# Altium schematic symbol library Capacitors.SchLib: 58 symbols (part 2 of 2)
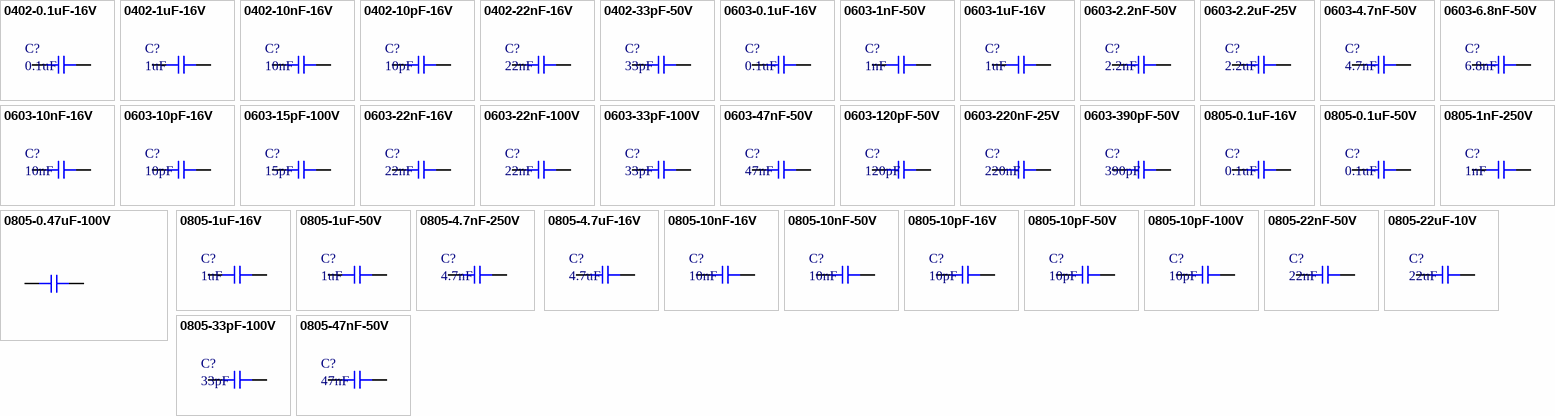
[diagram p2: symbols 0402-0.1uF-16V to 0805-47nF-50V]

## 0805-10nF-16V
designator C?, comment 10nF
CAP CER 10000PF 16V X7R 0805; Manufacturer: KEMET; Manufacturer Part Number: C0805C103K4RACTU; Dielectric Material: Ceramic; Tolerance: 10%; Supplier 1: Digi-Key; Stock 1: 53988; Pricing 1: 1=0.16, 10=0.112, 100=0.0528, 500=0.03704, 1000=0.03066 (USD); Mount: Surface Mount; Case/Package: 0805; Case Code (Metric): 2012; Case Code (Imperial): 0805; Min Operating Temperature: -55°C; Max Operating Temperature: 125°C; Package Quantity: 1; Capacitance: 10nF; Voltage Rating: 16V; Packaging: Tape and Reel; Voltage Rating (DC): 16V; Dielectric: X7R; Termination: SMD/SMT; Length: 2mm; Height: 0.78mm; Width: 0.049inch; Thickness: 0.035inch; Lead Pitch: 0.75mm; Depth: 1.25mm; Radiation Hardening: No; REACH SVHC: No SVHC; ComponentLink1URL: http://components.arrow.com/part/dataview/0323_00325260?src-supplier=Arrow+Europe; ComponentLink1Description: http://components.arrow.com/part/dataview/0323_00325260?src-supplier=Arrow+Europe; ComponentLink2URL: https://api.kemet.com/component-edge/download/datasheet/C0805C103K4RACTU.pdf?src-supplier=Digi-Key; ComponentLink2Description: https://api.kemet.com/component-edge/download/datasheet/C0805C103K4RACTU.pdf?src-supplier=Digi-Key; ComponentLink3URL: http://www.farnell.com/datasheets/2746090.pdf?src-supplier=Newark; ComponentLink3Description: http://www.farnell.com/datasheets/2746090.pdf?src-supplier=Newark; ComponentLink4URL: http://www.farnell.com/datasheets/2746090.pdf?src-supplier=Farnell; ComponentLink4Description: http://www.farnell.com/datasheets/2746090.pdf?src-supplier=Farnell; ComponentLink5URL: http://www.mouser.com/ds/2/212/KEM_C1002_X7R_SMD-1102033.pdf?src-supplier=Mouser; ComponentLink5Description: http://www.mouser.com/ds/2/212/KEM_C1002_X7R_SMD-1102033.pdf?src-supplier=Mouser; ComponentLink6URL: http://components.arrow.com/part/dataview/3450723S5469568N7429?src-supplier=Arrow; ComponentLink6Description: http://components.arrow.com/part/dataview/3450723S5469568N7429?src-supplier=Arrow; ComponentLink7URL: http://www.farnell.com/datasheets/2064983.pdf?src-supplier=Element14; ComponentLink7Description: http://www.farnell.com/datasheets/2064983.pdf?src-supplier=Element14; Supplier Part Number 1: 399-7995-6-ND
footprint CAP-0805 (Chip Capacitor, 2-Leads, Body 2.00x1.25mm, IPC Medium Density)
pins: 1, 2

## 0805-10nF-50V
designator C?, comment 10nF
CAP CER SMD 0805 .01UF X7R 5% 50V; Manufacturer: KEMET; Manufacturer Part Number: C0805C103J5RAC7210; Dielectric Material: Ceramic; Supplier 1: Digi-Key; Stock 1: 35151; Pricing 1: 1=0.11, 10=0.078, 100=0.0347, 500=0.0248, 1000=0.01948, 2500=0.01771, 5000=0.01629 (USD); Case/Package: 0805; Case Code (Imperial): 0805; Case Code (Metric): 2012; Min Operating Temperature: -55°C; Max Operating Temperature: 125°C; Tolerance: 5%; Packaging: Tape and Reel; Capacitance: 10nF; Package Quantity: 10000; Voltage Rating: 50V; Voltage Rating (DC): 50V; Dielectric: X7R; Termination: SMD/SMT; Length: 2mm; Lead Pitch: 0.75mm; Depth: 1.25mm; ComponentLink1URL: http://components.arrow.com/part/dataview/3450688S9650973N7429?src-supplier=Arrow; ComponentLink1Description: http://components.arrow.com/part/dataview/3450688S9650973N7429?src-supplier=Arrow; ComponentLink2URL: http://www.mouser.com/ds/2/212/KEM_C1002_X7R_SMD-1102033.pdf?src-supplier=Mouser; ComponentLink2Description: http://www.mouser.com/ds/2/212/KEM_C1002_X7R_SMD-1102033.pdf?src-supplier=Mouser; ComponentLink3URL: https://api.kemet.com/component-edge/download/datasheet/C0805C103J5RAC7210.pdf?src-supplier=Digi-Key; ComponentLink3Description: https://api.kemet.com/component-edge/download/datasheet/C0805C103J5RAC7210.pdf?src-supplier=Digi-Key; Supplier Part Number 1: 399-17616-6-ND
footprint CAP-0805 (Chip Capacitor, 2-Leads, Body 2.00x1.25mm, IPC Medium Density)
pins: 1, 2

## 0805-10pF-16V
designator C?, comment 10pF
CAP CER 10PF 16V C0G/NP0 0805; Manufacturer: KEMET; Manufacturer Part Number: C0805C100M4GACTU; Dielectric Material: Ceramic; Tolerance: 20%; Dielectric: C0G; Dissipation Factor: 0.1%; Supplier 1: Digi-Key; Stock 1: 15919; Pricing 1: 1=0.11, 10=0.081, 100=0.036, 500=0.02568, 1000=0.02018 (USD); Mount: Surface Mount; Case/Package: 0805; Case Code (Imperial): 0805; Case Code (Metric): 2012; Contact Plating: Tin,Matte; Min Operating Temperature: -55°C; Max Operating Temperature: 125°C; Capacitance: 10pF; Package Quantity: 1; Voltage Rating: 16V; Voltage Rating (DC): 16V; Packaging: Tape and Reel; Termination: SMD/SMT; Length: 2mm; Height: 0.78mm; Width: 1.2mm; Lead Pitch: 0.75mm; Thickness: 0.035inch; REACH SVHC: No SVHC; Lead Free: Lead Free; ComponentLink1URL: http://www.mouser.com/ds/2/212/KEM_C1003_C0G_SMD-1101588.pdf?src-supplier=Mouser; ComponentLink1Description: http://www.mouser.com/ds/2/212/KEM_C1003_C0G_SMD-1101588.pdf?src-supplier=Mouser; ComponentLink2URL: http://www.farnell.com/datasheets/2746314.pdf?src-supplier=Newark; ComponentLink2Description: http://www.farnell.com/datasheets/2746314.pdf?src-supplier=Newark; ComponentLink3URL: http://www.farnell.com/datasheets/2323334.pdf?src-supplier=Farnell; ComponentLink3Description: http://www.farnell.com/datasheets/2323334.pdf?src-supplier=Farnell; ComponentLink4URL: http://www.farnell.com/datasheets/2746314.pdf?src-supplier=Farnell; ComponentLink4Description: http://www.farnell.com/datasheets/2746314.pdf?src-supplier=Farnell; ComponentLink5URL: http://capacitoredge.kemet.com/capedge2/DataSheet?pn=C0805C100M4GACTU&src-supplier=Avnet; ComponentLink5Description: http://capacitoredge.kemet.com/capedge2/DataSheet?pn=C0805C100M4GACTU&src-supplier=Avnet; ComponentLink6URL: https://api.kemet.com/component-edge/download/datasheet/C0805C100M4GACTU.pdf?src-supplier=Digi-Key; ComponentLink6Description: https://api.kemet.com/component-edge/download/datasheet/C0805C100M4GACTU.pdf?src-supplier=Digi-Key; Supplier Part Number 1: 399-9147-6-ND
footprint CAP-0805 (Chip Capacitor, 2-Leads, Body 2.00x1.25mm, IPC Medium Density)
pins: 1, 2

## 0805-10pF-50V
designator C?, comment 10pF
CAP CER 10PF 50V C0G/NP0 0805; Manufacturer: KEMET; Manufacturer Part Number: C0805C100K5GACTU; Dielectric Material: Ceramic; Tolerance: 10%; Dielectric: C0G; Dissipation Factor: 0.1%; Supplier 1: Digi-Key; Stock 1: 68522; Pricing 1: 1=0.11, 10=0.081, 100=0.036, 500=0.02568, 1000=0.02018 (USD); Mount: Surface Mount; Case/Package: 0805; Case Code (Metric): 2012; Case Code (Imperial): 0805; Contact Plating: Tin,Matte; Min Operating Temperature: -55°C; Max Operating Temperature: 125°C; Capacitance: 10pF; Packaging: Tape and Reel; Package Quantity: 4000; Voltage Rating: 50V; Voltage Rating (DC): 50V; Termination: SMD/SMT; Length: 2mm; Height: 0.78mm; Width: 0.049inch; Thickness: 0.035inch; Lead Pitch: 0.75mm; Depth: 1.25mm; Radiation Hardening: No; REACH SVHC: No SVHC; Lead Free: Lead Free; ComponentLink1URL: http://www.farnell.com/datasheets/1791934.pdf?src-supplier=Element14; ComponentLink1Description: http://www.farnell.com/datasheets/1791934.pdf?src-supplier=Element14; ComponentLink2URL: http://www.mouser.com/ds/2/212/KEM_C1003_C0G_SMD-1101588.pdf?src-supplier=Mouser; ComponentLink2Description: http://www.mouser.com/ds/2/212/KEM_C1003_C0G_SMD-1101588.pdf?src-supplier=Mouser; ComponentLink3URL: https://www.verical.com/server-webapp/html/getDatasheet?partID=107106&src-supplier=Verical; ComponentLink3Description: https://www.verical.com/server-webapp/html/getDatasheet?partID=107106&src-supplier=Verical; Supplier Part Number 1: 399-7975-6-ND
footprint CAP-0805 (Chip Capacitor, 2-Leads, Body 2.00x1.25mm, IPC Medium Density)
pins: 1, 2

## 0805-10pF-100V
designator C?, comment 10pF
CAP CER 10PF 100V C0G/NP0 0805; Manufacturer: KEMET; Manufacturer Part Number: C0805C100J1GACTU; Dielectric Material: Ceramic; Tolerance: 5%; Dielectric: C0G; Dissipation Factor: 0.1%; Temperature Coefficient: 30ppm/°C; Supplier 1: Digi-Key; Stock 1: 8225; Pricing 1: 1=0.19, 10=0.131, 100=0.0663, 500=0.04538, 1000=0.04015 (USD); Mount: Surface Mount,PCB; Case/Package: 0805; Number of Pins: 2; Weight: 0.000194oz; Case Code (Metric): 2012; Case Code (Imperial): 0805; Contact Material: Tin; Min Operating Temperature: -55°C; Max Operating Temperature: 125°C; Capacitance: 10pF; Packaging: Tape and Reel; Voltage Rating: 100V; Voltage Rating (DC): 100V; Package Quantity: 1; Termination: SMD/SMT; Voltage: 100V; Length: 2mm; Height: 0.78mm; Width: 0.049inch; Thickness: 0.035inch; Depth: 1.25mm; Radiation Hardening: No; REACH SVHC: No SVHC; Lead Free: Lead Free; ComponentLink1URL: http://www.farnell.com/datasheets/1789732.pdf?src-supplier=Element14; ComponentLink1Description: http://www.farnell.com/datasheets/1789732.pdf?src-supplier=Element14; ComponentLink2URL: http://www.kemet.com/kemet/web/homepage/kechome.nsf/file/Commercial%20Ceramic%20Chips%20NP0%20-%20C0G%20Dielectric/$file/KEM_C1003_C0G_SMD.pdf?src-supplier=Element14; ComponentLink2Description: http://www.kemet.com/kemet/web/homepage/kechome.nsf/file/Commercial%20Ceramic%20Chips%20NP0%20-%20C0G%20Dielectric/$file/KEM_C1003_C0G_SMD.pdf?src-supplier=Element14; ComponentLink3URL: https://www.alliedelec.com/m/d/9bfe7773041ffe9d406e68bc7b377fdd.pdf?src-supplier=Allied+Electronics; ComponentLink3Description: https://www.alliedelec.com/m/d/9bfe7773041ffe9d406e68bc7b377fdd.pdf?src-supplier=Allied+Electronics; Supplier Part Number 1: 399-1109-6-ND
footprint CAP-0805 (Chip Capacitor, 2-Leads, Body 2.00x1.25mm, IPC Medium Density)
pins: 1, 2

## 0805-22nF-50V
designator C?, comment 22nF
CAP CER 0.022UF 50V X7R 0805; Manufacturer: KEMET; Manufacturer Part Number: C0805C223K5RACTU; Dielectric Material: Ceramic; Tolerance: 10%; Supplier 1: Digi-Key; Stock 1: 449500; Pricing 1: 1=0.1, 10=0.06, 100=0.0267, 500=0.01906, 1000=0.01497 (USD); Mount: Surface Mount; Case/Package: 0805; Min Operating Temperature: -55°C; Max Operating Temperature: 125°C; Packaging: Tape and Reel; Capacitance: 22nF; Dielectric: X7R; Voltage Rating (DC): 50V; Voltage: 50V; Length: 2mm; Height: 0.78mm; Depth: 1.25mm; Radiation Hardening: No; ComponentLink1URL: https://www.verical.com/server-webapp/html/getDatasheet?partID=385695&src-supplier=Verical; ComponentLink1Description: https://www.verical.com/server-webapp/html/getDatasheet?partID=385695&src-supplier=Verical; Supplier Part Number 1: 399-1163-6-ND
footprint CAP-0805 (Chip Capacitor, 2-Leads, Body 2.00x1.25mm, IPC Medium Density)
pins: 1, 2

## 0805-22uF-10V
designator C?, comment 22uF
CAP CER 22UF 10V X5R 0805; Manufacturer: KEMET; Manufacturer Part Number: C0805C226M8PACTU; Dielectric Material: Ceramic; Dissipation Factor: 10%; Tolerance: 20%; Supplier 1: Digi-Key; Stock 1: 29030; Pricing 1: 1=0.47, 10=0.331, 100=0.2179, 500=0.16142, 1000=0.1372 (USD); Mount: Surface Mount; Case/Package: 0805; Case Code (Metric): 2012; Case Code (Imperial): 0805; Min Operating Temperature: -55°C; Max Operating Temperature: 85°C; Packaging: Tape and Reel; Capacitance: 22uF; Voltage Rating: 10V; Voltage: 10V; Dielectric: X5R; Termination: Solder; Voltage Rating (DC): 10V; Length: 0.079inch; Height: 1.25mm; Width: 0.049inch; Thickness: 0.055inch; Depth: 1.25mm; Lead Free: Lead Free; ComponentLink1URL: http://www.farnell.com/datasheets/2746360.pdf?src-supplier=Newark; ComponentLink1Description: http://www.farnell.com/datasheets/2746360.pdf?src-supplier=Newark; ComponentLink2URL: http://www.farnell.com/datasheets/2746360.pdf?src-supplier=Farnell; ComponentLink2Description: http://www.farnell.com/datasheets/2746360.pdf?src-supplier=Farnell; ComponentLink3URL: http://www.farnell.com/datasheets/2746360.pdf?src-supplier=Element14; ComponentLink3Description: http://www.farnell.com/datasheets/2746360.pdf?src-supplier=Element14; ComponentLink4URL: https://api.kemet.com/component-edge/download/datasheet/C0805C226M8PAC7800.pdf?src-supplier=Digi-Key; ComponentLink4Description: https://api.kemet.com/component-edge/download/datasheet/C0805C226M8PAC7800.pdf?src-supplier=Digi-Key; ComponentLink5URL: http://www.alliedelec.com/m/d/f3c02ddb98afa3dd1adcb801109671e9.pdf?src-supplier=Allied+Electronics; ComponentLink5Description: http://www.alliedelec.com/m/d/f3c02ddb98afa3dd1adcb801109671e9.pdf?src-supplier=Allied+Electronics; Supplier Part Number 1: 399-12069-6-ND
footprint CAP-0805 (Chip Capacitor, 2-Leads, Body 2.00x1.25mm, IPC Medium Density)
pins: 1, 2

## 0805-33pF-100V
designator C?, comment 33pF
CAP CER 33PF 100V C0G/NP0 0805; Manufacturer: KEMET; Manufacturer Part Number: C0805C330J1GACTU; Dielectric Material: Ceramic; Tolerance: 5%; Dielectric: C0G; Temperature Coefficient: 30ppm/°C; Dissipation Factor: 0.5%; Supplier 1: Digi-Key; Stock 1: 33939; Pricing 1: 1=0.13, 10=0.095, 100=0.0446, 500=0.03126, 1000=0.02589 (USD); Mount: Surface Mount; Case/Package: 0805; Number of Pins: 2; Case Code (Metric): 2012; Case Code (Imperial): 0805; Contact Material: Tin; Contact Plating: Tin,Matte; Min Operating Temperature: -55°C; Max Operating Temperature: 125°C; Capacitance: 33pF; Voltage Rating: 100V; Packaging: Tape and Reel; Voltage Rating (DC): 100V; Package Quantity: 1; Termination: SMD/SMT; Length: 2mm; Height: 0.78mm; Width: 0.049inch; Thickness: 0.035inch; Lead Pitch: 0.75mm; Depth: 1.25mm; Radiation Hardening: No; REACH SVHC: No SVHC; Lead Free: Lead Free; ComponentLink1URL: https://www.verical.com/server-webapp/html/getDatasheet?partID=135191&src-supplier=Verical; ComponentLink1Description: https://www.verical.com/server-webapp/html/getDatasheet?partID=135191&src-supplier=Verical; ComponentLink2URL: http://www.farnell.com/datasheets/40889.pdf?src-supplier=Element14; ComponentLink2Description: http://www.farnell.com/datasheets/40889.pdf?src-supplier=Element14; ComponentLink3URL: http://www.kemet.com/Lists/ProductCatalog/Attachments/46/KEM_C1003_C0G_SMD.pdf?src-supplier=Avnet; ComponentLink3Description: http://www.kemet.com/Lists/ProductCatalog/Attachments/46/KEM_C1003_C0G_SMD.pdf?src-supplier=Avnet; ComponentLink4URL: http://www.farnell.com/datasheets/1789732.pdf?src-supplier=Element14; ComponentLink4Description: http://www.farnell.com/datasheets/1789732.pdf?src-supplier=Element14; Supplier Part Number 1: 399-8061-6-ND
footprint CAP-0805 (Chip Capacitor, 2-Leads, Body 2.00x1.25mm, IPC Medium Density)
pins: 1, 2

## 0805-47nF-50V
designator C?, comment 47nF
CAP CER 0.047UF 50V X7R 0805; Manufacturer: Yageo; Manufacturer Part Number: CC0805KRX7R9BB473; Material: Ceramic; Tolerance: 10%; Insulation Resistance: 100GR; Dissipation Factor: 2.5%; Supplier 1: Digi-Key; Stock 1: 16938; Pricing 1: 1=0.14, 10=0.1, 100=0.047, 500=0.03298, 1000=0.0273 (USD); Mount: Surface Mount; Case/Package: 0805; Number of Pins: 2; Case Code (Metric): 2012; Case Code (Imperial): 0805; Dielectric Material: Ceramic; Min Operating Temperature: -55°C; Max Operating Temperature: 125°C; Packaging: Tape and Reel; Capacitance: 47nF; Voltage Rating: 50V; Package Quantity: 1; Voltage Rating (DC): 50V; Dielectric: X7R; Termination: SMD/SMT; Composition: Ceramic; Voltage: 50V; Length: 2mm; Height: 1.25mm; Width: 1.25mm; Thickness: 0.037inch; Depth: 1.25mm; Radiation Hardening: No; REACH SVHC: Unknown; Lead Free: Lead Free; Halogen Free: Halogen Free; ComponentLink1URL: http://www.yageo.com/documents/recent/UPY-GPHC_X7R_6.3V-to-50V_18.pdf?src-supplier=Digi-Key; ComponentLink1Description: http://www.yageo.com/documents/recent/UPY-GPHC_X7R_6.3V-to-50V_18.pdf?src-supplier=Digi-Key; ComponentLink2URL: http://www.farnell.com/datasheets/2167236.pdf?src-supplier=Element14; ComponentLink2Description: http://www.farnell.com/datasheets/2167236.pdf?src-supplier=Element14; ComponentLink3URL: http://www.farnell.com/datasheets/1489800.pdf?src-supplier=Element14; ComponentLink3Description: http://www.farnell.com/datasheets/1489800.pdf?src-supplier=Element14; ComponentLink4URL: http://www.yageo.com/documents/recent/UPY-GPHC_X7R_6.3V-to-50V_8.pdf?src-supplier=Avnet; ComponentLink4Description: http://www.yageo.com/documents/recent/UPY-GPHC_X7R_6.3V-to-50V_8.pdf?src-supplier=Avnet; ComponentLink5URL: https://www.verical.com/server-webapp/html/getDatasheet?partID=403708&src-supplier=Verical; ComponentLink5Description: https://www.verical.com/server-webapp/html/getDatasheet?partID=403708&src-supplier=Verical; Supplier Part Number 1: 311-1431-6-ND
footprint CAP-0805 (Chip Capacitor, 2-Leads, Body 2.00x1.25mm, IPC Medium Density)
pins: 1, 2

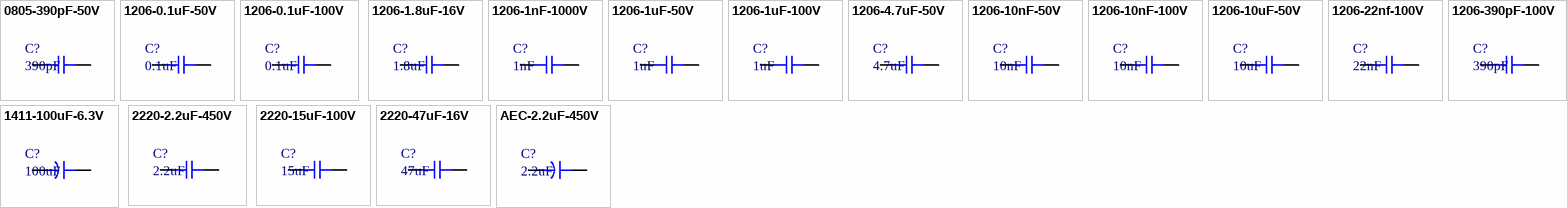
[diagram p1: symbols 0805-390pF-50V to AEC-2.2uF-450V]

## 0805-390pF-50V
designator C?, comment 390pF
CAP CER 390PF 50V C0G/NP0 0805; Manufacturer: KEMET; Manufacturer Part Number: C0805C391J5GACTU; Dielectric Material: Ceramic; Tolerance: 5%; Dissipation Factor: 0.1%; Dielectric: C0G; Supplier 1: Digi-Key; Stock 1: 12778; Pricing 1: 1=0.15, 10=0.105, 100=0.0495, 500=0.03472, 1000=0.02875 (USD); Mount: Surface Mount,PCB; Case/Package: 0805; Case Code (Metric): 2012; Case Code (Imperial): 0805; Contact Material: Tin; Contact Plating: Tin,Matte; Min Operating Temperature: -55°C; Max Operating Temperature: 125°C; Package Quantity: 1; Capacitance: 390pF; Voltage Rating: 50V; Packaging: Tape and Reel; Termination: SMD/SMT; Voltage Rating (DC): 50V; Voltage: 50V; Length: 2mm; Height: 0.78mm; Width: 0.049inch; Lead Pitch: 0.75mm; Depth: 1.25mm; Thickness: 0.035inch; Radiation Hardening: No; REACH SVHC: No SVHC; Lead Free: Lead Free; ComponentLink1URL: https://search.kemet.com/component-edge/download/datasheet/C0805C391J5GACTU.pdf?src-supplier=Digi-Key; ComponentLink1Description: https://search.kemet.com/component-edge/download/datasheet/C0805C391J5GACTU.pdf?src-supplier=Digi-Key; ComponentLink2URL: https://www.verical.com/server-webapp/html/getDatasheet?partID=35246&src-supplier=Verical; ComponentLink2Description: https://www.verical.com/server-webapp/html/getDatasheet?partID=35246&src-supplier=Verical; ComponentLink3URL: https://www.alliedelec.com/m/d/9bfe7773041ffe9d406e68bc7b377fdd.pdf?src-supplier=Allied+Electronics; ComponentLink3Description: https://www.alliedelec.com/m/d/9bfe7773041ffe9d406e68bc7b377fdd.pdf?src-supplier=Allied+Electronics; ComponentLink4URL: http://www.farnell.com/datasheets/1372242.pdf?src-supplier=Element14; ComponentLink4Description: http://www.farnell.com/datasheets/1372242.pdf?src-supplier=Element14; ComponentLink5URL: http://www.jameco.com/Jameco/Products/ProdDS/1567367.pdf?src-supplier=Jameco; ComponentLink5Description: http://www.jameco.com/Jameco/Products/ProdDS/1567367.pdf?src-supplier=Jameco; Supplier Part Number 1: 399-1132-6-ND
footprint CAP-0805 (Chip Capacitor, 2-Leads, Body 2.00x1.25mm, IPC Medium Density)
pins: 1, 2

## 1206-0.1uF-50V
designator C?, comment 0.1uF
CAP CER 0.1UF 50V X7R 1206; Manufacturer: KEMET; Manufacturer Part Number: C1206C104K5RAC-TU; Dielectric Material: Ceramic; Tolerance: 10%; Capacitance: 100nF; Supplier 1: Digi-Key; Stock 1: 471916; Pricing 1: 1=0.12, 10=0.088, 100=0.0413, 500=0.02896, 1000=0.02397 (USD); Mount: Surface Mount; Case/Package: 1206; Number of Pins: 2; Case Code (Imperial): 1206; Case Code (Metric): 3216; Contact Plating: Tin,Matte; Min Operating Temperature: -55°C; Max Operating Temperature: 125°C; Packaging: Tape and Reel; Voltage Rating (DC): 50V; Dielectric: X7R; Voltage Rating: 50V; Package Quantity: 4000; Termination: SMD/SMT; Voltage: 50V; Length: 3.2mm; Height: 0.78mm; Width: 1.6mm; Depth: 1.6mm; Radiation Hardening: No; REACH SVHC: No SVHC; ComponentLink1URL: http://www.kemet.com/kemet/web/homepage/kechome.nsf/vapubfiles/KEM_C1002_X7R_SMD.pdf/$file/KEM_C1002_X7R_SMD.pdf?src-supplier=Farnell; ComponentLink1Description: http://www.kemet.com/kemet/web/homepage/kechome.nsf/vapubfiles/KEM_C1002_X7R_SMD.pdf/$file/KEM_C1002_X7R_SMD.pdf?src-supplier=Farnell; ComponentLink2URL: http://www.mouser.com/ds/2/212/KEM_C1002_X7R_SMD-1102033.pdf?src-supplier=Mouser; ComponentLink2Description: http://www.mouser.com/ds/2/212/KEM_C1002_X7R_SMD-1102033.pdf?src-supplier=Mouser; ComponentLink3URL: http://www.farnell.com/datasheets/2315737.pdf?src-supplier=Farnell; ComponentLink3Description: http://www.farnell.com/datasheets/2315737.pdf?src-supplier=Farnell; ComponentLink4URL: http://www.alliedelec.com/m/d/9bfe7773041ffe9d406e68bc7b377fdd.pdf?src-supplier=Allied+Electronics; ComponentLink4Description: http://www.alliedelec.com/m/d/9bfe7773041ffe9d406e68bc7b377fdd.pdf?src-supplier=Allied+Electronics; ComponentLink5URL: http://www.farnell.com/datasheets/1851736.pdf?src-supplier=Element14; ComponentLink5Description: http://www.farnell.com/datasheets/1851736.pdf?src-supplier=Element14; ComponentLink6URL: http://www.kemet.com/kemet/web/homepage/kechome.nsf/vapubfiles/KEM_C1002_X7R_SMD.pdf/$file/KEM_C1002_X7R_SMD.pdf?src-supplier=Element14; ComponentLink6Description: http://www.kemet.com/kemet/web/homepage/kechome.nsf/vapubfiles/KEM_C1002_X7R_SMD.pdf/$file/KEM_C1002_X7R_SMD.pdf?src-supplier=Element14; ComponentLink7URL: http://www.onlinecomponents.com/productFiles/mf-KEM/docfinderpartnumberc0402c102k5ractu.pdf?src-supplier=Onlinecomponents.com; ComponentLink7Description: http://www.onlinecomponents.com/productFiles/mf-KEM/docfinderpartnumberc0402c102k5ractu.pdf?src-supplier=Onlinecomponents.com; ComponentLink8URL: https://www.distrelec.biz/Web/Downloads/_t/ds/KEM_C1002_X7R_SMD_eng_tds.pdf?mime=application%2Fpdf&src-supplier=Distrelec; ComponentLink8Description: https://www.distrelec.biz/Web/Downloads/_t/ds/KEM_C1002_X7R_SMD_eng_tds.pdf?mime=application%2Fpdf&src-supplier=Distrelec; Supplier Part Number 1: 399-C1206C104K5RAC7800DKR-ND
footprint CAP-1206 (Chip Capacitor, 2-Leads, Body 3.20x1.60mm, IPC Medium Density)
pins: 1, 2

## 1206-0.1uF-100V
designator C?, comment 0.1uF
CAP CER 0.1UF 100V X7R 1206; Manufacturer: KEMET; Manufacturer Part Number: C1206C104K1RACTU; Dielectric Material: Ceramic; Capacitance: 100nF; Tolerance: 10%; Supplier 1: Digi-Key; Stock 1: 407754; Pricing 1: 1=0.28, 10=0.19, 100=0.1075, 500=0.0759, 1000=0.06641 (USD); Mount: Surface Mount,PCB; Case/Package: 1206; Number of Pins: 2; Case Code (Imperial): 1206; Case Code (Metric): 3216; Contact Plating: Tin,Matte; Min Operating Temperature: -55°C; Max Operating Temperature: 125°C; Packaging: Tape and Reel; Package Quantity: 1; Voltage Rating: 100V; Voltage Rating (DC): 100V; Dielectric: X7R; Termination: SMD/SMT; Voltage: 100V; Length: 3.2mm; Height: 0.78mm; Width: 1.6mm; Thickness: 0.035inch; Depth: 1.6mm; Radiation Hardening: No; REACH SVHC: No SVHC; ComponentLink1URL: http://www.farnell.com/datasheets/2740715.pdf?src-supplier=Element14; ComponentLink1Description: http://www.farnell.com/datasheets/2740715.pdf?src-supplier=Element14; ComponentLink2URL: https://search.kemet.com/component-edge/download/datasheet/C1206C104K1RACTU.pdf?src-supplier=Allied+Electronics; ComponentLink2Description: https://search.kemet.com/component-edge/download/datasheet/C1206C104K1RACTU.pdf?src-supplier=Allied+Electronics; Supplier Part Number 1: 399-1805-6-ND
footprint CAP-1206 (Chip Capacitor, 2-Leads, Body 3.20x1.60mm, IPC Medium Density)
pins: 1, 2

## 1206-1.8uF-16V
designator C?, comment 1.8uF
CAP CER 1.8UF 16V X7R 1206; Manufacturer: KEMET; Manufacturer Part Number: C1206X185K4RACAUTO; Dielectric Material: Ceramic; Tolerance: 10%; Supplier 1: Digi-Key; Stock 1: 438963; Pricing 1: 1=0.9, 10=0.66, 100=0.4524, 500=0.35814, 1000=0.30159 (USD); Mount: Surface Mount; Case/Package: 1206; Weight: 0.000571oz; Case Code (Imperial): 1206; Case Code (Metric): 3216; Min Operating Temperature: -55°C; Max Operating Temperature: 125°C; Packaging: Tape and Reel; Capacitance: 1.8uF; Dielectric: X7R; Voltage Rating: 16V; Termination: SMD/SMT; Voltage Rating (DC): 16V; Package Quantity: 2500; Features: Soft Termination; Length: 0.13inch; Height: 1mm; Width: 0.063inch; Thickness: 0.047inch; Depth: 1.6mm; Ratings: AEC-Q200; ComponentLink1URL: https://api.kemet.com/component-edge/download/datasheet/C1206X185K4RACAUTO.pdf?src-supplier=Digi-Key; ComponentLink1Description: https://api.kemet.com/component-edge/download/datasheet/C1206X185K4RACAUTO.pdf?src-supplier=Digi-Key; ComponentLink2URL: http://components.arrow.com/part/dataview/0323_06505338?src-supplier=Arrow+Europe; ComponentLink2Description: http://components.arrow.com/part/dataview/0323_06505338?src-supplier=Arrow+Europe; ComponentLink3URL: http://www.kemet.com/docfinder?Partnumber=C1206X185K4RACAUTO&src-supplier=Digi-Key; ComponentLink3Description: http://www.kemet.com/docfinder?Partnumber=C1206X185K4RACAUTO&src-supplier=Digi-Key; ComponentLink4URL: http://www.mouser.com/ds/2/212/KEM_C1078_X7R_FT-CAP_AUTO_SMD-780116.pdf?src-supplier=Mouser; ComponentLink4Description: http://www.mouser.com/ds/2/212/KEM_C1078_X7R_FT-CAP_AUTO_SMD-780116.pdf?src-supplier=Mouser; Supplier Part Number 1: 399-17271-6-ND
footprint CAP-1206 (Chip Capacitor, 2-Leads, Body 3.20x1.60mm, IPC Medium Density)
pins: 1, 2

## 1206-1nF-1000V
designator C?, comment 1nF
CAP CER 1000PF 1KV X7R 1206; Manufacturer: KEMET; Manufacturer Part Number: C1206C102KDRACTU; Dielectric Material: Ceramic; Tolerance: 10%; Voltage Rating (DC): 1.5kV; Voltage: 2kV; Supplier 1: Digi-Key; Stock 1: 93224; Pricing 1: 1=0.28, 10=0.19, 100=0.1075, 500=0.0759, 1000=0.06641 (USD); Mount: Surface Mount; Case/Package: 1206; Number of Pins: 2; Case Code (Imperial): 1206; Case Code (Metric): 3216; Min Operating Temperature: -55°C; Max Operating Temperature: 125°C; Packaging: Tape and Reel; Capacitance: 1nF; Dielectric: X7R; Package Quantity: 1; Voltage Rating: 1kV; Termination: SMD/SMT; Length: 3.2mm; Height: 1.2mm; Depth: 1.6mm; Width: 0.063inch; Thickness: 0.053inch; Lead Pitch: 1.5mm; Radiation Hardening: No; REACH SVHC: No SVHC; ComponentLink1URL: http://www.farnell.com/datasheets/1807957.pdf?src-supplier=Element14; ComponentLink1Description: http://www.farnell.com/datasheets/1807957.pdf?src-supplier=Element14; ComponentLink2URL: http://www.farnell.com/datasheets/1812017.pdf?src-supplier=Element14; ComponentLink2Description: http://www.farnell.com/datasheets/1812017.pdf?src-supplier=Element14; ComponentLink3URL: https://www.verical.com/server-webapp/html/getDatasheet?partID=320277&src-supplier=Verical; ComponentLink3Description: https://www.verical.com/server-webapp/html/getDatasheet?partID=320277&src-supplier=Verical; ComponentLink4URL: http://www.jameco.com/Jameco/Products/ProdDS/1567931.pdf?src-supplier=Jameco; ComponentLink4Description: http://www.jameco.com/Jameco/Products/ProdDS/1567931.pdf?src-supplier=Jameco; ComponentLink5URL: http://www.farnell.com/datasheets/1918693.pdf?src-supplier=Element14; ComponentLink5Description: http://www.farnell.com/datasheets/1918693.pdf?src-supplier=Element14; ComponentLink6URL: http://www.kemet.com/kemet/web/homepage/kechome.nsf/vapubfiles/KEM_C1002_X7R_SMD.pdf/$file/KEM_C1002_X7R_SMD.pdf?src-supplier=Farnell; ComponentLink6Description: http://www.kemet.com/kemet/web/homepage/kechome.nsf/vapubfiles/KEM_C1002_X7R_SMD.pdf/$file/KEM_C1002_X7R_SMD.pdf?src-supplier=Farnell; Supplier Part Number 1: 399-3437-6-ND
pins: 1, 2

## 1206-1uF-50V
designator C?, comment 1uF
CAP CER 1UF 50V X7R 1206; Manufacturer: KEMET; Manufacturer Part Number: C1206C105K5RACTU; Dielectric Material: Ceramic; Tolerance: 10%; Supplier 1: Digi-Key; Stock 1: 152402; Pricing 1: 1=0.32, 10=0.219, 100=0.1239, 500=0.08744, 1000=0.07651 (USD); Mount: Surface Mount; Case/Package: 1206; Number of Pins: 2; Case Code (Imperial): 1206; Case Code (Metric): 3216; Min Operating Temperature: -55°C; Max Operating Temperature: 125°C; Capacitance: 1uF; Packaging: Tape and Reel; Dielectric: X7R; Voltage: 50V; Termination: SMD/SMT; Package Quantity: 1; Voltage Rating: 50V; Voltage Rating (DC): 50V; Length: 3.2mm; Height: 1mm; Depth: 1.6mm; Width: 0.063inch; Thickness: 0.043inch; Radiation Hardening: No; REACH SVHC: No SVHC; ComponentLink1URL: http://www.kemet.com/kemet/web/homepage/kechome.nsf/vapubfiles/KEM_C1002_X7R_SMD.pdf/$file/KEM_C1002_X7R_SMD.pdf?src-supplier=Element14; ComponentLink1Description: http://www.kemet.com/kemet/web/homepage/kechome.nsf/vapubfiles/KEM_C1002_X7R_SMD.pdf/$file/KEM_C1002_X7R_SMD.pdf?src-supplier=Element14; ComponentLink2URL: http://www.kemet.com/kemet/web/homepage/kechome.nsf/vapubfiles/KEM_C1002_X7R_SMD.pdf/$file/KEM_C1002_X7R_SMD.pdf?src-supplier=Farnell; ComponentLink2Description: http://www.kemet.com/kemet/web/homepage/kechome.nsf/vapubfiles/KEM_C1002_X7R_SMD.pdf/$file/KEM_C1002_X7R_SMD.pdf?src-supplier=Farnell; ComponentLink3URL: http://www.farnell.com/datasheets/1918693.pdf?src-supplier=Element14; ComponentLink3Description: http://www.farnell.com/datasheets/1918693.pdf?src-supplier=Element14; Supplier Part Number 1: 399-8147-6-ND
footprint CAP-1206 (Chip Capacitor, 2-Leads, Body 3.20x1.60mm, IPC Medium Density)
pins: 1, 2

## 1206-1uF-100V
designator C?, comment 1uF
CAP CER 1UF 100V X7R 1206; Manufacturer: KEMET; Manufacturer Part Number: C1206C105M1RACTU; Dielectric Material: Ceramic; Tolerance: 20%; Supplier 1: Digi-Key; Stock 1: 7623; Pricing 1: 1=0.55, 10=0.392, 100=0.2582, 500=0.19126, 1000=0.16258 (USD); Mount: Surface Mount; Case/Package: 1206; Weight: 0.000571oz; Case Code (Metric): 3216; Case Code (Imperial): 1206; Min Operating Temperature: -55°C; Max Operating Temperature: 125°C; Capacitance: 1uF; Packaging: Tape and Reel; Voltage Rating: 100V; Dielectric: X7R; Termination: SMD/SMT; Voltage Rating (DC): 100V; Package Quantity: 2000; Length: 0.126inch; Height: 1.6mm; Width: 1.6mm; Thickness: 0.071inch; ComponentLink1URL: http://www.farnell.com/datasheets/2746623.pdf?src-supplier=Farnell; ComponentLink1Description: http://www.farnell.com/datasheets/2746623.pdf?src-supplier=Farnell; ComponentLink2URL: http://www.farnell.com/datasheets/2746623.pdf?src-supplier=Newark; ComponentLink2Description: http://www.farnell.com/datasheets/2746623.pdf?src-supplier=Newark; ComponentLink3URL: http://www.mouser.com/ds/2/212/KEM_C1002_X7R_SMD-357932.pdf?src-supplier=Mouser; ComponentLink3Description: http://www.mouser.com/ds/2/212/KEM_C1002_X7R_SMD-357932.pdf?src-supplier=Mouser; ComponentLink4URL: https://api.kemet.com/component-edge/download/datasheet/C1206C105M1RACTU.pdf?src-supplier=Digi-Key; ComponentLink4Description: https://api.kemet.com/component-edge/download/datasheet/C1206C105M1RACTU.pdf?src-supplier=Digi-Key; ComponentLink5URL: http://www.kemet.com/docfinder?Partnumber=C1206C105M1RACTU&src-supplier=Digi-Key; ComponentLink5Description: http://www.kemet.com/docfinder?Partnumber=C1206C105M1RACTU&src-supplier=Digi-Key; Supplier Part Number 1: 399-11684-6-ND
footprint CAP-1206 (Chip Capacitor, 2-Leads, Body 3.20x1.60mm, IPC Medium Density)
pins: 1, 2

## 1206-4.7uF-50V
designator C?, comment 4.7uF
CAP CER 4.7UF 50V X5R 1206; Manufacturer: KEMET; Manufacturer Part Number: C1206C475K5PACTU; Dielectric Material: Ceramic; Tolerance: 10%; Supplier 1: Digi-Key; Stock 1: 32084; Pricing 1: 1=0.37, 10=0.259, 100=0.1552, 500=0.11642, 1000=0.09831 (USD); Mount: Surface Mount; Case/Package: 1206; Number of Pins: 2; Contact Plating: Tin,Matte; Min Operating Temperature: -55°C; Max Operating Temperature: 85°C; Capacitance: 4.7uF; Packaging: Tape and Reel; Dielectric: X5R; Voltage: 50V; Termination: SMD/SMT; Voltage Rating (DC): 50V; Length: 3.2mm; Height: 1.6mm; Depth: 1.6mm; Radiation Hardening: No; Lead Free: Lead Free; ComponentLink1URL: http://www.farnell.com/datasheets/2740796.pdf?src-supplier=Element14; ComponentLink1Description: http://www.farnell.com/datasheets/2740796.pdf?src-supplier=Element14; ComponentLink2URL: http://www.farnell.com/datasheets/2740796.pdf?src-supplier=Farnell; ComponentLink2Description: http://www.farnell.com/datasheets/2740796.pdf?src-supplier=Farnell; ComponentLink3URL: https://media.digikey.com/pdf/Data%20Sheets/Kemet%20PDFs/C1206C475K5PAC.pdf?src-supplier=Digi-Key; ComponentLink3Description: https://media.digikey.com/pdf/Data%20Sheets/Kemet%20PDFs/C1206C475K5PAC.pdf?src-supplier=Digi-Key; ComponentLink4URL: http://www.farnell.com/datasheets/2740796.pdf?src-supplier=Newark; ComponentLink4Description: http://www.farnell.com/datasheets/2740796.pdf?src-supplier=Newark; ComponentLink5URL: http://components.arrow.com/part/dataview/0323_00069465?src-supplier=Arrow+Europe; ComponentLink5Description: http://components.arrow.com/part/dataview/0323_00069465?src-supplier=Arrow+Europe; Supplier Part Number 1: 399-5507-6-ND
footprint CAP-1206 (Chip Capacitor, 2-Leads, Body 3.20x1.60mm, IPC Medium Density)
pins: 1, 2

## 1206-10nF-50V
designator C?, comment 10nF
CAP CER 10000PF 50V X7R 1206; Manufacturer: KEMET; Manufacturer Part Number: C1206C103K5RACTU; Dielectric Material: Ceramic; Tolerance: 10%; Supplier 1: Digi-Key; Stock 1: 112096; Pricing 1: 1=0.19, 10=0.131, 100=0.0663, 500=0.04538, 1000=0.04015 (USD); Mount: Surface Mount,PCB; Case/Package: 1206; Number of Pins: 2; Case Code (Imperial): 1206; Case Code (Metric): 3216; Contact Plating: Tin,Matte; Min Operating Temperature: -55°C; Max Operating Temperature: 125°C; Capacitance: 10nF; Voltage Rating: 50V; Voltage Rating (DC): 50V; Package Quantity: 4000; Packaging: Tape and Reel; Dielectric: X7R; Termination: SMD/SMT; Voltage: 50V; Length: 3.2mm; Height: 0.78mm; Width: 1.6mm; Thickness: 0.035inch; Depth: 1.6mm; Radiation Hardening: No; REACH SVHC: No SVHC; ComponentLink1URL: http://www.farnell.com/datasheets/1851736.pdf?src-supplier=Element14; ComponentLink1Description: http://www.farnell.com/datasheets/1851736.pdf?src-supplier=Element14; ComponentLink2URL: https://www.verical.com/server-webapp/html/getDatasheet?partID=93584&src-supplier=Verical; ComponentLink2Description: https://www.verical.com/server-webapp/html/getDatasheet?partID=93584&src-supplier=Verical; ComponentLink3URL: http://www.kemet.com/kemet/web/homepage/kechome.nsf/vapubfiles/KEM_C1002_X7R_SMD.pdf/$file/KEM_C1002_X7R_SMD.pdf?src-supplier=Element14; ComponentLink3Description: http://www.kemet.com/kemet/web/homepage/kechome.nsf/vapubfiles/KEM_C1002_X7R_SMD.pdf/$file/KEM_C1002_X7R_SMD.pdf?src-supplier=Element14; ComponentLink4URL: https://www.alliedelec.com/m/d/9bfe7773041ffe9d406e68bc7b377fdd.pdf?src-supplier=Allied+Electronics; ComponentLink4Description: https://www.alliedelec.com/m/d/9bfe7773041ffe9d406e68bc7b377fdd.pdf?src-supplier=Allied+Electronics; ComponentLink5URL: http://www.farnell.com/datasheets/2740714.pdf?src-supplier=Element14; ComponentLink5Description: http://www.farnell.com/datasheets/2740714.pdf?src-supplier=Element14; Supplier Part Number 1: 399-1234-6-ND
footprint CAP-1206 (Chip Capacitor, 2-Leads, Body 3.20x1.60mm, IPC Medium Density)
pins: 1, 2

## 1206-10nF-100V
designator C?, comment 10nF
CAP CER 10000PF 100V X7R 1206; Manufacturer: KEMET; Manufacturer Part Number: C1206C103K1RACTU; Dielectric Material: Ceramic; Tolerance: 10%; Dissipation Factor: 2.5%; Supplier 1: Digi-Key; Stock 1: 319949; Pricing 1: 1=0.21, 10=0.142, 100=0.0721, 500=0.04934, 1000=0.04364 (USD); Mount: Surface Mount,PCB; Case/Package: 1206; Number of Pins: 2; Case Code (Metric): 3216; Case Code (Imperial): 1206; Contact Plating: Tin,Matte; Min Operating Temperature: -55°C; Max Operating Temperature: 125°C; Package Quantity: 1; Capacitance: 10nF; Voltage Rating: 100V; Packaging: Tape and Reel; Voltage Rating (DC): 100V; Dielectric: X7R; Termination: SMD/SMT; Voltage: 100V; Length: 3.2mm; Height: 0.78mm; Width: 0.063inch; Thickness: 0.035inch; Depth: 1.6mm; Radiation Hardening: No; REACH SVHC: No SVHC; ComponentLink1URL: http://www.mouser.com/ds/2/212/KEM_C1002_X7R_SMD-1102033.pdf?src-supplier=Mouser; ComponentLink1Description: http://www.mouser.com/ds/2/212/KEM_C1002_X7R_SMD-1102033.pdf?src-supplier=Mouser; ComponentLink2URL: https://www.alliedelec.com/m/d/9bfe7773041ffe9d406e68bc7b377fdd.pdf?src-supplier=Allied+Electronics; ComponentLink2Description: https://www.alliedelec.com/m/d/9bfe7773041ffe9d406e68bc7b377fdd.pdf?src-supplier=Allied+Electronics; ComponentLink3URL: http://www.kemet.com/kemet/web/homepage/kechome.nsf/vapubfiles/KEM_C1002_X7R_SMD.pdf/$file/KEM_C1002_X7R_SMD.pdf?src-supplier=Element14; ComponentLink3Description: http://www.kemet.com/kemet/web/homepage/kechome.nsf/vapubfiles/KEM_C1002_X7R_SMD.pdf/$file/KEM_C1002_X7R_SMD.pdf?src-supplier=Element14; ComponentLink4URL: https://www.verical.com/server-webapp/html/getDatasheet?partID=385817&src-supplier=Verical; ComponentLink4Description: https://www.verical.com/server-webapp/html/getDatasheet?partID=385817&src-supplier=Verical; ComponentLink5URL: http://www.farnell.com/datasheets/1851736.pdf?src-supplier=Element14; ComponentLink5Description: http://www.farnell.com/datasheets/1851736.pdf?src-supplier=Element14; Supplier Part Number 1: 399-1236-6-ND
footprint CAP-1206 (Chip Capacitor, 2-Leads, Body 3.20x1.60mm, IPC Medium Density)
pins: 1, 2

## 1206-10uF-50V
designator C?, comment 10uF
CAP CER 10UF 50V X5R 1206; Manufacturer: Murata; Manufacturer Part Number: GRT31CR61H106ME01L; Tolerance: 20%; Supplier 1: Digi-Key; Stock 1: 247205; Pricing 1: 1=0.5, 10=0.349, 100=0.2092, 500=0.1569, 1000=0.13249 (USD); Mount: Surface Mount; Case/Package: 1206; Case Code (Metric): 3216; Case Code (Imperial): 1206; Min Operating Temperature: -55°C; Max Operating Temperature: 85°C; Packaging: Tape and Reel; Capacitance: 10uF; Voltage Rating: 50V; Length: 0.126inch; Width: 0.063inch; Thickness: 0.071inch; Ratings: AEC-Q200; ComponentLink1URL: http://search.murata.co.jp/Ceramy/image/img/A01X/G101/ENG/GRT31CR61H106ME01-01.pdf?src-supplier=Digi-Key; ComponentLink1Description: http://search.murata.co.jp/Ceramy/image/img/A01X/G101/ENG/GRT31CR61H106ME01-01.pdf?src-supplier=Digi-Key; Supplier Part Number 1: 490-12457-1-ND
footprint CAP-1206 (Chip Capacitor, 2-Leads, Body 3.20x1.60mm, IPC Medium Density)
pins: 1, 2

## 1206-22nf-100V
designator C?, comment 22nF
CAP CER 0.022UF 100V X7R 1206; Manufacturer: KEMET; Manufacturer Part Number: C1206C223J1RACTU; Dielectric Material: Ceramic; Tolerance: 5%; Dissipation Factor: 2.5%; Supplier 1: Digi-Key; Stock 1: 6943; Pricing 1: 1=0.2, 10=0.134, 100=0.0678, 500=0.04638, 1000=0.04104 (USD); Mount: Surface Mount; Case/Package: 1206; Case Code (Metric): 3216; Case Code (Imperial): 1206; Min Operating Temperature: -55°C; Max Operating Temperature: 125°C; Package Quantity: 1; Capacitance: 22nF; Voltage Rating: 100V; Packaging: Tape and Reel; Voltage Rating (DC): 100V; Dielectric: X7R; Termination: SMD/SMT; Length: 3.2mm; Height: 0.78mm; Width: 0.063inch; Thickness: 0.035inch; Depth: 1.6mm; ComponentLink1URL: https://search.kemet.com/component-edge/download/datasheet/C1206C223J1RACTU.pdf?src-supplier=Digi-Key; ComponentLink1Description: https://search.kemet.com/component-edge/download/datasheet/C1206C223J1RACTU.pdf?src-supplier=Digi-Key; ComponentLink2URL: http://components.arrow.com/part/dataview/0323_00343269?src-supplier=Arrow+Europe; ComponentLink2Description: http://components.arrow.com/part/dataview/0323_00343269?src-supplier=Arrow+Europe; ComponentLink3URL: http://www.kemet.com/kemet/web/homepage/kechome.nsf/weben/C4DA2DA1D1C9D3C3CA2570A50016092D/$file/KEM_C1002_X7R_SMD.pdf?src-supplier=Avnet+Europe; ComponentLink3Description: http://www.kemet.com/kemet/web/homepage/kechome.nsf/weben/C4DA2DA1D1C9D3C3CA2570A50016092D/$file/KEM_C1002_X7R_SMD.pdf?src-supplier=Avnet+Europe; ComponentLink4URL: http://components.arrow.com/part/dataview/2628269S5621810N7429?src-supplier=Arrow; ComponentLink4Description: http://components.arrow.com/part/dataview/2628269S5621810N7429?src-supplier=Arrow; ComponentLink5URL: http://www.mouser.com/ds/2/212/KEM_C1002_X7R_SMD-1102033.pdf?src-supplier=Mouser; ComponentLink5Description: http://www.mouser.com/ds/2/212/KEM_C1002_X7R_SMD-1102033.pdf?src-supplier=Mouser; ComponentLink6URL: https://api.kemet.com/component-edge/download/datasheet/C1206C223J1RACTU.pdf?src-supplier=Digi-Key; ComponentLink6Description: https://api.kemet.com/component-edge/download/datasheet/C1206C223J1RACTU.pdf?src-supplier=Digi-Key; ComponentLink7URL: http://www.farnell.com/datasheets/2323802.pdf?src-supplier=Newark; ComponentLink7Description: http://www.farnell.com/datasheets/2323802.pdf?src-supplier=Newark; Supplier Part Number 1: 399-9329-6-ND
footprint CAP-1206 (Chip Capacitor, 2-Leads, Body 3.20x1.60mm, IPC Medium Density)
pins: 1, 2

## 1206-390pF-100V
designator C?, comment 390pF
CAP CER 390PF 100V C0G/NP0 1206; Manufacturer: KEMET; Manufacturer Part Number: C1206C391J1GACTU; Dielectric Material: Ceramic; Tolerance: 5%; Dielectric: C0G; Supplier 1: Digi-Key; Stock 1: 45354; Pricing 1: 1=0.33, 10=0.228, 100=0.129, 500=0.09108, 1000=0.0797 (USD); Mount: Surface Mount; Case/Package: 1206; Case Code (Metric): 3216; Case Code (Imperial): 1206; Contact Material: Tin; Min Operating Temperature: -55°C; Max Operating Temperature: 125°C; Package Quantity: 1; Capacitance: 390pF; Voltage Rating: 100V; Packaging: Tape and Reel; Voltage Rating (DC): 100V; Termination: SMD/SMT; Length: 3.2mm; Height: 0.78mm; Width: 0.063inch; Thickness: 0.035inch; Depth: 1.6mm; Radiation Hardening: No; Lead Free: Lead Free; ComponentLink1URL: https://www.verical.com/server-webapp/html/getDatasheet?partID=27611&src-supplier=Verical; ComponentLink1Description: https://www.verical.com/server-webapp/html/getDatasheet?partID=27611&src-supplier=Verical; Supplier Part Number 1: 399-9353-6-ND
footprint CAP-1206 (Chip Capacitor, 2-Leads, Body 3.20x1.60mm, IPC Medium Density)
pins: 1, 2

## 1411-100uF-6.3V
designator C?, comment 100uF
CAP TANT 100UF 10% 6.3V 1411; Manufacturer: KEMET; Manufacturer Part Number: T495B107K006ATE400; ESR (Equivalent Series Resistance): 400mR; Polarity: Polar; Life (Hours): 2000Hour; Dissipation Factor: 15%; Supplier 1: Digi-Key; Stock 1: 3565; Pricing 1: 1=1.82, 10=1.471, 100=1.123, 500=0.8556, 1000=0.74865 (USD); Mount: Surface Mount; Case/Package: 1411; Weight: 0.002293oz; Case Code (Metric): 3528; Case Code (Imperial): 1411; Min Operating Temperature: -55°C; Max Operating Temperature: 125°C; Package Quantity: 1; Capacitance: 100uF; Voltage Rating: 6.3V; Tolerance: 10%; Packaging: Tape and Reel; Voltage Rating (DC): 6.3V; Termination: SMD/SMT; Features: General Purpose; Length: 3.5mm; Height: 2.8mm; Width: 0.11inch; Height - Seated (Max): 0.083inch; Depth: 2.8mm; Radiation Hardening: No; REACH SVHC: No SVHC; ComponentLink1URL: https://search.kemet.com/component-edge/download/datasheet/T495B107K006ATE400.pdf?src-supplier=Digi-Key; ComponentLink1Description: https://search.kemet.com/component-edge/download/datasheet/T495B107K006ATE400.pdf?src-supplier=Digi-Key; ComponentLink2URL: http://www.farnell.com/datasheets/2015696.pdf?src-supplier=Element14; ComponentLink2Description: http://www.farnell.com/datasheets/2015696.pdf?src-supplier=Element14; ComponentLink3URL: http://www.farnell.com/datasheets/2015696.pdf?src-supplier=Farnell; ComponentLink3Description: http://www.farnell.com/datasheets/2015696.pdf?src-supplier=Farnell; ComponentLink4URL: http://components.arrow.com/part/dataview/43511620S9336597N7429?src-supplier=Arrow; ComponentLink4Description: http://components.arrow.com/part/dataview/43511620S9336597N7429?src-supplier=Arrow; ComponentLink5URL: http://components.arrow.com/part/dataview/0323_00067285?src-supplier=Arrow+Europe; ComponentLink5Description: http://components.arrow.com/part/dataview/0323_00067285?src-supplier=Arrow+Europe; ComponentLink6URL: http://www.mouser.com/ds/2/212/KEM_T2071_T495_COTS-1104607.pdf?src-supplier=Mouser; ComponentLink6Description: http://www.mouser.com/ds/2/212/KEM_T2071_T495_COTS-1104607.pdf?src-supplier=Mouser; ComponentLink7URL: http://www.kemet.com/Lists/ProductCatalog/Attachments/261/KEM_T2009_T495.pdf?src-supplier=Avnet; ComponentLink7Description: http://www.kemet.com/Lists/ProductCatalog/Attachments/261/KEM_T2009_T495.pdf?src-supplier=Avnet; Supplier Part Number 1: 399-10286-6-ND
footprint CAP-1411 (Molded Capacitor, 2-Leads, Body 3.50x2.80mm, IPC Medium Density)
pins: 1, 2

## 2220-2.2uF-450V
designator C?, comment 2.2uF
CAP CER 2.2UF 450V X6S 2220; Manufacturer: TDK; Manufacturer Part Number: C5750X6S2W225K250KA; Tolerance: 10%; Supplier 1: Digi-Key; Stock 1: 8149; Pricing 1: 1=3.66, 10=2.957, 100=2.258 (USD); Mount: Surface Mount; Case/Package: 2220; Weight: 0.016932oz; Case Code (Metric): 5750; Case Code (Imperial): 2220; Min Operating Temperature: -55°C; Max Operating Temperature: 105°C; Package Quantity: 1; Capacitance: 2.2uF; Voltage Rating: 450V; Packaging: Tape and Reel; Dielectric: X6S; Termination: SMD/SMT; Voltage Rating (DC): 450V; Length: 5.7mm; Height: 2.5mm; Width: 0.197inch; Thickness: 0.11inch; Depth: 5mm; Radiation Hardening: No; REACH SVHC: No SVHC; Lead Free: Lead Free; ComponentLink1URL: http://product.tdk.com/capacitor/mlcc/en/documents/mlcc_commercial_midvoltage_en.pdf?src-supplier=Avnet+Europe; ComponentLink1Description: http://product.tdk.com/capacitor/mlcc/en/documents/mlcc_commercial_midvoltage_en.pdf?src-supplier=Avnet+Europe; Supplier Part Number 1: 445-7781-6-ND
footprint CAP-2220 (Chip Capacitor, 2-Leads, Body 5.70x5.00mm, IPC Medium Density)
pins: 1, 2

## 2220-15uF-100V
designator C?, comment 15uF
CAP CER 15UF 100V X7S 2220; Manufacturer: TDK; Manufacturer Part Number: C5750X7S2A156M250KB; Tolerance: 20%; Supplier 1: Digi-Key; Stock 1: 86072; Pricing 1: 1=3.44, 10=2.783, 100=2.1252 (USD); Mount: Surface Mount; Case/Package: 2220; Weight: 0.016932oz; Case Code (Metric): 5750; Case Code (Imperial): 2220; Min Operating Temperature: -55°C; Max Operating Temperature: 125°C; Package Quantity: 1; Capacitance: 15uF; Voltage Rating: 100V; Packaging: Tape and Reel; Voltage Rating (DC): 100V; Dielectric: X7S; Termination: SMD/SMT; Composition: Ceramic; Length: 0.224inch; Height: 2.5mm; Width: 0.197inch; Thickness: 0.11inch; Depth: 5mm; REACH SVHC: No SVHC; Lead Free: Lead Free; ComponentLink1URL: http://www.mouser.com/ds/2/400/lcc_commercial_general_en-837201.pdf?src-supplier=Mouser; ComponentLink1Description: http://www.mouser.com/ds/2/400/lcc_commercial_general_en-837201.pdf?src-supplier=Mouser; Supplier Part Number 1: 445-6044-6-ND
footprint CAP-2220 (Chip Capacitor, 2-Leads, Body 5.70x5.00mm, IPC Medium Density)
pins: 1, 2

## 2220-47uF-16V
designator C?, comment 47uF
CAP CER 47UF 16V X7R 2220; Supplier 1: Digi-Key; Supplier Part Number 1: 445-7935-1-ND
footprint CAP-2220 (Chip Capacitor, 2-Leads, Body 5.70x5.00mm, IPC Medium Density)
pins: 1, 2

## AEC-2.2uF-450V
designator C?, comment 2.2uF
CAP ALUM 2.2UF 20% 450V SMD; Manufacturer: Panasonic; Manufacturer Part Number: EEV-EB2W2R2Q; Dielectric Material: Aluminium; Ripple Current: 29mA; Leakage Current: 69.4uA; Life (Hours): 3000Hour; Lead Length: 3.5mm; Supplier 1: Digi-Key; Stock 1: 11878; Pricing 1: 1=1.97, 10=1.595, 100=1.2181 (USD); Mount: Surface Mount,PCB; Case/Package: Radial; Number of Pins: 13; Min Operating Temperature: -25°C; Max Operating Temperature: 105°C; Capacitance: 2.2uF; Voltage Rating: 450V; Tolerance: 20%; Packaging: Tape and Reel; Package Quantity: 1; Voltage Rating (DC): 450V; Ripple Current (AC): 29mA; Termination: SMD/SMT; Voltage: 450V; Diameter: 10mm; Length: 13.5mm; Height: 13.5mm; Height - Seated (Max): 0.531inch; Lead Pitch: 4.6mm; Width: 900um; Radiation Hardening: No; REACH SVHC: No SVHC; Lead Free: Lead Free; ComponentLink1URL: http://industrial.panasonic.com/www-data/pdf/ABA0000/ABA0000CE11.pdf?src-supplier=Future+Electronics; ComponentLink1Description: http://industrial.panasonic.com/www-data/pdf/ABA0000/ABA0000CE11.pdf?src-supplier=Future+Electronics; ComponentLink2URL: http://industrial.panasonic.com/www-data/pdf/ABA0000/ABA0000CE11.pdf?src-supplier=Avnet+Europe; ComponentLink2Description: http://industrial.panasonic.com/www-data/pdf/ABA0000/ABA0000CE11.pdf?src-supplier=Avnet+Europe; ComponentLink3URL: https://www.alliedelec.com/m/d/a554666974647fe31c472ffeb47467b6.pdf?src-supplier=Allied+Electronics; ComponentLink3Description: https://www.alliedelec.com/m/d/a554666974647fe31c472ffeb47467b6.pdf?src-supplier=Allied+Electronics; ComponentLink4URL: http://www.farnell.com/datasheets/1678957.pdf?src-supplier=Element14; ComponentLink4Description: http://www.farnell.com/datasheets/1678957.pdf?src-supplier=Element14; ComponentLink5URL: http://industrial.panasonic.com/www-data/pdf/ABA0000/ABA0000CE11.pdf?src-supplier=Element14; ComponentLink5Description: http://industrial.panasonic.com/www-data/pdf/ABA0000/ABA0000CE11.pdf?src-supplier=Element14; ComponentLink6URL: http://industrial.panasonic.com/www-data/pdf/ABA0000/ABA0000CE11.pdf?src-supplier=Avnet; ComponentLink6Description: http://industrial.panasonic.com/www-data/pdf/ABA0000/ABA0000CE11.pdf?src-supplier=Avnet; ComponentLink7URL: https://www.verical.com/server-webapp/html/getDatasheet?partID=52297&src-supplier=Verical; ComponentLink7Description: https://www.verical.com/server-webapp/html/getDatasheet?partID=52297&src-supplier=Verical; ComponentLink8URL: http://www.farnell.com/datasheets/2059975.pdf?src-supplier=Farnell; ComponentLink8Description: http://www.farnell.com/datasheets/2059975.pdf?src-supplier=Farnell; ComponentLink9URL: http://www.farnell.com/datasheets/2059975.pdf?src-supplier=Element14; ComponentLink9Description: http://www.farnell.com/datasheets/2059975.pdf?src-supplier=Element14; Supplier Part Number 1: PCE3446DKR-ND
footprint CAP-10x10x13.5 (Aluminum Electrolytic Capacitor, Body 10.60x10.30x13.50mm, IPC Low Density)
pins: 1, 2